# Altium footprint library SamacSys.PcbLib: 128 footprints (part 6 of 8)
Each footprint in its own frame and in the unit in brackets; x right, y up, seen from the top. Pads: shape width x height; smd on the part's side, far side on the other; paste and mask are expansions set on the pad; w line width, h text height; cw(c..) or ccw(c..) is an arc to the next point about the centre after c.
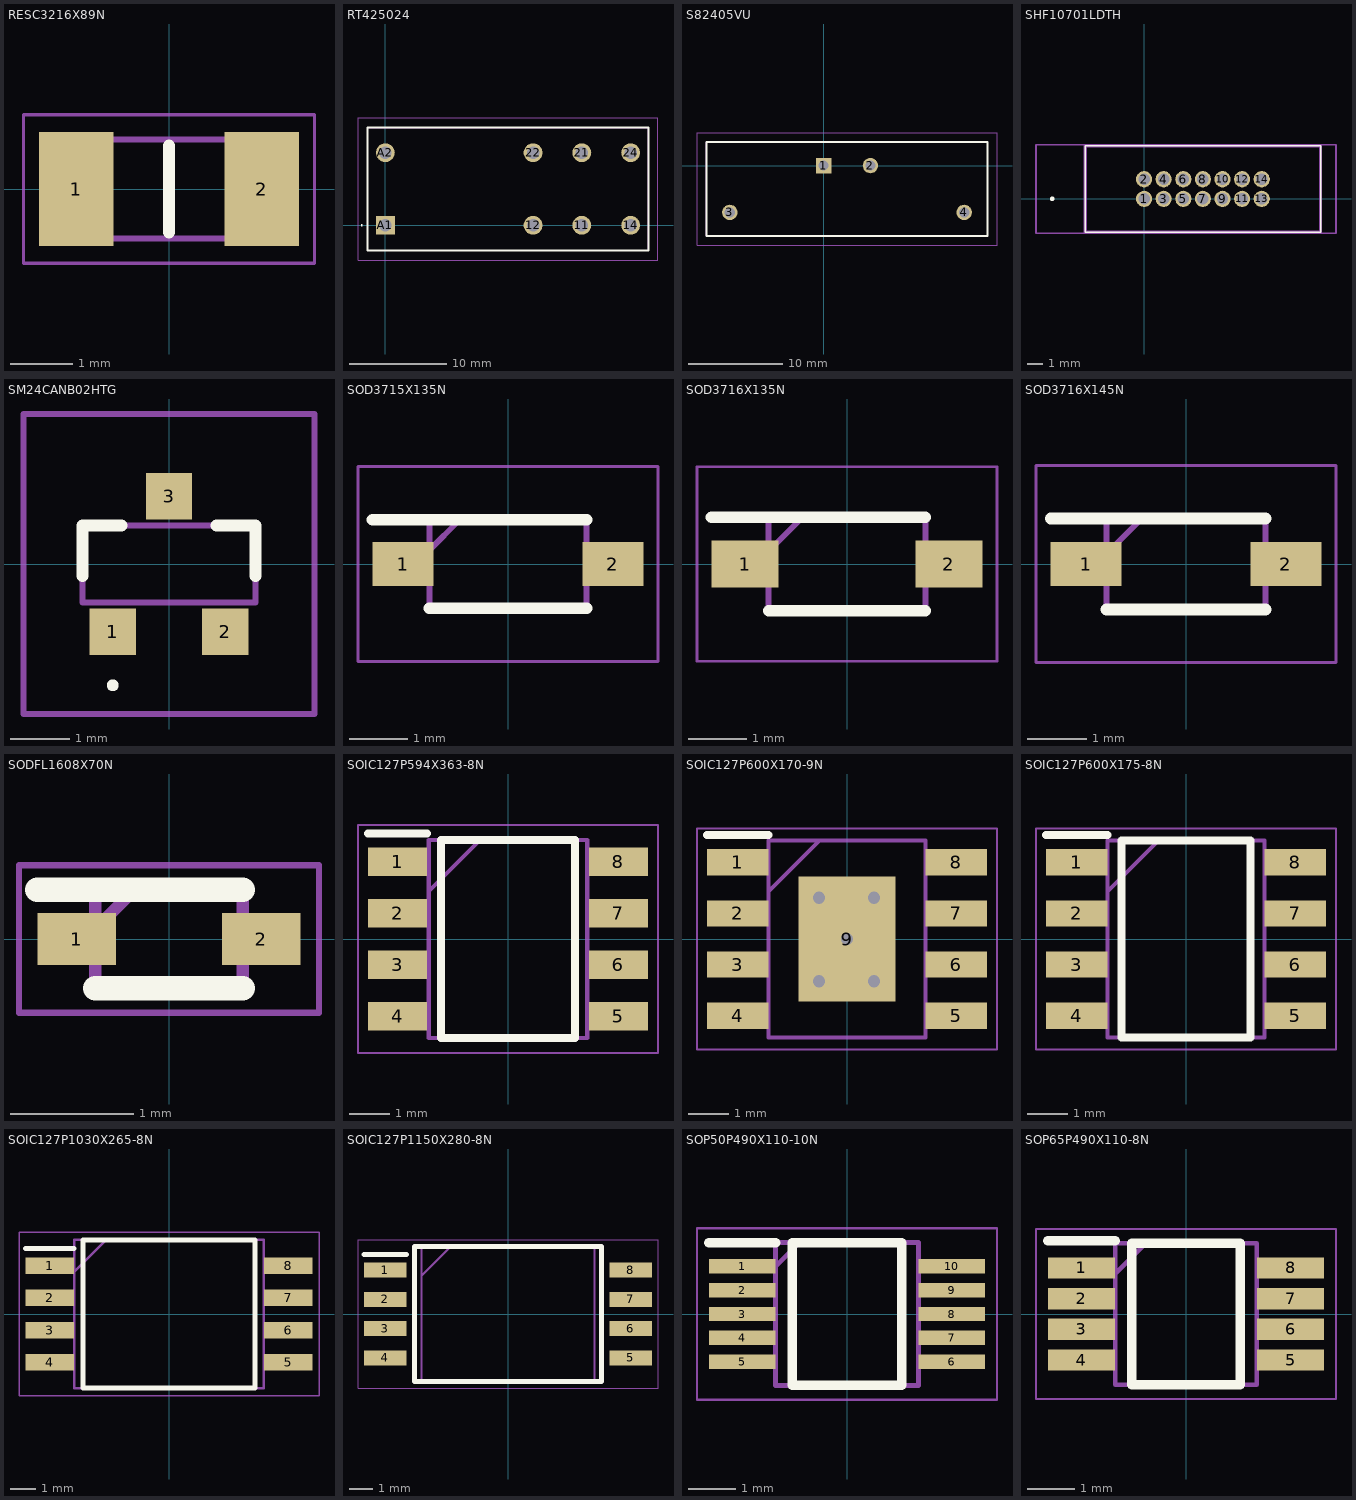
[diagram p5: the footprints below, top view; thin cyan lines are the x and y axes]

## RESC3216X89N [mm]
pads (2):
  rect 1.2x1.85 smd: 1(-1.5,0) 2(1.5,0)
Top Overlay:
  lines w0.2: 0,-0.7 0,0.7
Mechanical 13:
  lines w0.1: -1.6,-0.8 -1.6,0.8 1.6,0.8 1.6,-0.8 -1.6,-0.8
Mechanical 15:
  lines w0.05: -2.35,-1.2 -2.35,1.2 2.35,1.2 2.35,-1.2 -2.35,-1.2
3D body "WSLP1206R0200FEB.stp": height 0.64, standoff 0, extent -1.6,-0.8 1.6,0.8

## RT425024 [mm]
pads (8):
  round 1.95 hole 1.3: 11(20.3,0) 12(15.26,0) 14(25.34,0) 21(20.3,7.5) 22(15.26,7.5) 24(25.34,7.5) A2(0,7.5)
  rect 1.95x1.95 hole 1.3: A1(0,0)
Top Overlay:
  lines w0.1: -2.5,0 ccw(c-2.45,0) -2.4,0 ccw(c-2.45,0) -2.5,0
  lines w0.2: -1.83,-2.6 -1.83,10.1 27.17,10.1 27.17,-2.6 -1.83,-2.6
Mechanical 13:
  lines w0.1: -1.83,-2.6 -1.83,10.1 27.17,10.1 27.17,-2.6 -1.83,-2.6
Mechanical 15:
  lines w0.1: -2.83,-3.6 -2.83,11.1 28.17,11.1 28.17,-3.6 -2.83,-3.6
3D body "RT425024.stp": height 15.8, standoff -5, extent -1.83,-2.6 27.17,10.1

## S82405VU [mm]
pads (4):
  rect 1.65x1.65 hole 1.1: 1(0,0)
  round 1.65 hole 1.1: 2(5,0) 3(-10,-5) 4(15,-5)
Top Overlay:
  lines w0.2: -12.5,-7.5 -12.5,2.5 17.5,2.5 17.5,-7.5 -12.5,-7.5
Mechanical 13:
  lines w0.1: -12.5,-7.5 -12.5,2.5 17.5,2.5 17.5,-7.5 -12.5,-7.5
Mechanical 15:
  lines w0.1: -13.5,-8.5 -13.5,3.5 18.5,3.5 18.5,-8.5 -13.5,-8.5
3D body "S8-2405VU.stp": height 12.1, standoff -5, extent -12.5,-7.5 17.5,2.5

## SHF10701LDTH [mm]
pads (14):
  round 1.05 hole 0.74: 1(0,0) 2(0,1.27) 3(1.27,0) 4(1.27,1.27) 5(2.54,0) 6(2.54,1.27) 7(3.81,0) 8(3.81,1.27) 9(5.08,0) 10(5.08,1.27) 11(6.35,0) 12(6.35,1.27) 13(7.62,0) 14(7.62,1.27)
Top Overlay:
  lines w0.1: -3.81,-2.16 -3.81,3.43 11.43,3.43 11.43,-2.16 -3.81,-2.16
  lines w0.2: -6,0 ccw(c-5.95,0) -5.9,0 ; -6,0 cw(c-5.95,0) -5.9,0 ; -6,0 ccw(c-5.95,0) -5.9,0
Mechanical 13:
  lines w0.2: -3.81,-2.16 -3.81,3.43 11.43,3.43 11.43,-2.16 -3.81,-2.16
Mechanical 15:
  lines w0.1: -7,-2.225 12.43,-2.225 12.43,3.5 -7,3.5 -7,-2.225
3D body "SHF-107-01-L-D-TH.stp": height 5.43, standoff -5, extent -3.81,-2.16 11.43,3.43

## SM24CANB02HTG [mm]
pads (3):
  rect 0.78x0.78 smd: 1(-0.95,-1.145) 2(0.95,-1.145) 3(0,1.145)
Top Overlay:
  lines w0.1: -0.95,-2.1 cw(c-0.95,-2.05) -0.95,-2 cw(c-0.95,-2.05) -0.95,-2.1
  lines w0.2: -1.46,-0.2 -1.46,0.65 -0.8,0.65 ; 0.8,0.65 1.46,0.65 1.46,-0.2
Mechanical 13:
  lines w0.1: -1.46,-0.65 1.46,-0.65 1.46,0.65 -1.46,0.65 -1.46,-0.65
Mechanical 15:
  lines w0.1: -2.46,-2.535 2.46,-2.535 2.46,2.535 -2.46,2.535 -2.46,-2.535
3D body "SM24CANB-02HTG.stp": height 1.12, standoff 0, extent -1.46,-1.185 1.46,1.185

## SOD3715X135N [mm]
pads (2):
  rect 1.05x0.75 smd: 1(-1.8,0) 2(1.8,0)
Top Overlay:
  lines w0.2: -2.325,0.762 1.35,0.762 ; -1.35,-0.762 1.35,-0.762
Mechanical 13:
  lines w0.1: -1.35,0.238 -0.825,0.762 ; -1.35,-0.762 -1.35,0.762 1.35,0.762 1.35,-0.762 -1.35,-0.762
Mechanical 15:
  lines w0.05: -2.575,-1.675 -2.575,1.675 2.575,1.675 2.575,-1.675 -2.575,-1.675
3D body "1N4148W-TP.stp": height 1.25, standoff 0, extent -1.848,-0.85 1.852,0.85

## SOD3716X135N [mm]
pads (2):
  rect 1.15x0.8 smd: 1(-1.75,0) 2(1.75,0)
Top Overlay:
  lines w0.2: -2.325,0.8 1.345,0.8 ; -1.345,-0.8 1.345,-0.8
Mechanical 13:
  lines w0.1: -1.345,0.225 -0.77,0.8 ; -1.345,-0.8 -1.345,0.8 1.345,0.8 1.345,-0.8 -1.345,-0.8
Mechanical 15:
  lines w0.05: -2.575,-1.67 -2.575,1.67 2.575,1.67 2.575,-1.67 -2.575,-1.67
3D body "MBR0530T1G.stp": height 1.35, standoff 0, extent -1.855,-0.8 1.855,0.8

## SOD3716X145N [mm]
pads (2):
  rect 1.2x0.75 smd: 1(-1.7,0) 2(1.7,0)
Top Overlay:
  lines w0.2: -2.3,0.775 1.35,0.775 ; -1.35,-0.775 1.35,-0.775
Mechanical 13:
  lines w0.1: -1.35,0.175 -0.75,0.775 ; -1.35,-0.775 -1.35,0.775 1.35,0.775 1.35,-0.775 -1.35,-0.775
Mechanical 15:
  lines w0.05: -2.55,-1.675 -2.55,1.675 2.55,1.675 2.55,-1.675 -2.55,-1.675
3D body "MMSZ5242B-7-F.stp": height 1, standoff 0, extent -1.85,-0.89 1.85,0.89

## SODFL1608X70N [mm]
pads (2):
  rect 0.64x0.42 smd: 1(-0.75,0) 2(0.75,0)
Top Overlay:
  lines w0.2: -1.07,0.4 0.6,0.4 ; -0.6,-0.4 0.6,-0.4
Mechanical 13:
  lines w0.1: -0.6,0.08 -0.28,0.4 ; -0.6,-0.4 -0.6,0.4 0.6,0.4 0.6,-0.4 -0.6,-0.4
Mechanical 15:
  lines w0.05: -1.22,-0.6 -1.22,0.6 1.22,0.6 1.22,-0.6 -1.22,-0.6
3D body "SZMM5Z5V1ST1G.stp": height 0.7, standoff 0, extent -0.8,-0.4 0.8,0.4

## SOIC127P594X363-8N [mm]
pads (8):
  rect 1.45x0.7 smd: 1(-2.725,1.905) 2(-2.725,0.635) 3(-2.725,-0.635) 4(-2.725,-1.905) 5(2.725,-1.905) 6(2.725,-0.635) 7(2.725,0.635) 8(2.725,1.905)
Top Overlay:
  lines w0.2: -3.45,2.605 -2,2.605 ; -1.65,-2.44 -1.65,2.44 1.65,2.44 1.65,-2.44 -1.65,-2.44
Mechanical 13:
  lines w0.1: -1.955,1.17 -0.685,2.44 ; -1.955,-2.44 -1.955,2.44 1.955,2.44 1.955,-2.44 -1.955,-2.44
Mechanical 15:
  lines w0.05: -3.7,-2.815 -3.7,2.815 3.7,2.815 3.7,-2.815 -3.7,-2.815
3D body "MOCD207M.stp": height 3.63, standoff 0, extent -2.97,-2.44 2.97,2.44

## SOIC127P600X170-9N [mm]
pads (9):
  rect 1.525x0.65 smd: 1(-2.712,1.905) 2(-2.712,0.635) 3(-2.712,-0.635) 4(-2.712,-1.905) 5(2.712,-1.905) 6(2.712,-0.635) 7(2.712,0.635) 8(2.712,1.905)
  rect 2.4x3.1 smd: 9(0,0)
via 0,0 diameter 0.61 hole 0.3
via 0.675,1.025 diameter 0.61 hole 0.3
via 0.675,-1.05 diameter 0.61 hole 0.3
via -0.7,-1.05 diameter 0.61 hole 0.3
via -0.7,1.025 diameter 0.61 hole 0.3
Top Overlay:
  lines w0.2: -3.475,2.58 -1.95,2.58
Mechanical 13:
  lines w0.1: -1.95,1.18 -0.68,2.45 ; -1.95,-2.45 -1.95,2.45 1.95,2.45 1.95,-2.45 -1.95,-2.45
Mechanical 15:
  lines w0.05: -3.725,-2.75 -3.725,2.75 3.725,2.75 3.725,-2.75 -3.725,-2.75
3D body "TPS259620DDAR.stp": height 1.57, standoff 0, extent -3,-2.45 3,2.45

## SOIC127P600X175-8N [mm]
pads (8):
  rect 1.525x0.65 smd: 1(-2.712,1.905) 2(-2.712,0.635) 3(-2.712,-0.635) 4(-2.712,-1.905) 5(2.712,-1.905) 6(2.712,-0.635) 7(2.712,0.635) 8(2.712,1.905)
Top Overlay:
  lines w0.2: -3.475,2.58 -1.95,2.58 ; -1.6,-2.45 -1.6,2.45 1.6,2.45 1.6,-2.45 -1.6,-2.45
Mechanical 13:
  lines w0.1: -1.95,1.18 -0.68,2.45 ; -1.95,-2.45 -1.95,2.45 1.95,2.45 1.95,-2.45 -1.95,-2.45
Mechanical 15:
  lines w0.05: -3.725,-2.75 -3.725,2.75 3.725,2.75 3.725,-2.75 -3.725,-2.75
3D body "NE555DR.stp": height 1.75, standoff 0, extent -3,-2.45 3,2.45

## SOIC127P1030X265-8N [mm]
pads (8):
  rect 1.925x0.65 smd: 1(-4.712,1.905) 2(-4.712,0.635) 3(-4.712,-0.635) 4(-4.712,-1.905) 5(4.712,-1.905) 6(4.712,-0.635) 7(4.712,0.635) 8(4.712,1.905)
Top Overlay:
  lines w0.2: -5.675,2.58 -3.75,2.58 ; -3.4,-2.925 -3.4,2.925 3.4,2.925 3.4,-2.925 -3.4,-2.925
Mechanical 13:
  lines w0.1: -3.75,1.655 -2.48,2.925 ; -3.75,-2.925 -3.75,2.925 3.75,2.925 3.75,-2.925 -3.75,-2.925
Mechanical 15:
  lines w0.05: -5.925,-3.225 -5.925,3.225 5.925,3.225 5.925,-3.225 -5.925,-3.225
3D body "MIE05W0505BGYE-3R-P.stp": height 2.65, standoff 0, extent -5.15,-2.925 5.15,2.925

## SOIC127P1150X280-8N [mm]
pads (8):
  rect 1.85x0.65 smd: 1(-5.325,1.905) 2(-5.325,0.635) 3(-5.325,-0.635) 4(-5.325,-1.905) 5(5.325,-1.905) 6(5.325,-0.635) 7(5.325,0.635) 8(5.325,1.905)
Top Overlay:
  lines w0.2: -6.25,2.58 -4.4,2.58 ; -4.05,-2.925 -4.05,2.925 4.05,2.925 4.05,-2.925 -4.05,-2.925
Mechanical 13:
  lines w0.1: -3.75,1.655 -2.48,2.925 ; -3.75,-2.925 -3.75,2.925 3.75,2.925 3.75,-2.925 -3.75,-2.925
Mechanical 15:
  lines w0.05: -6.5,-3.225 -6.5,3.225 6.5,3.225 6.5,-3.225 -6.5,-3.225
3D body "AMC23C11DWV.stp": height 2.8, standoff 0, extent -5.75,-2.925 5.75,2.925

## SOP50P490X110-10N [mm]
pads (10):
  rect 1.4x0.3 smd: 1(-2.2,1) 2(-2.2,0.5) 3(-2.2,0) 4(-2.2,-0.5) 5(-2.2,-1) 6(2.2,-1) 7(2.2,-0.5) 8(2.2,0) 9(2.2,0.5) 10(2.2,1)
Top Overlay:
  lines w0.2: -2.9,1.5 -1.5,1.5 ; -1.15,-1.5 1.15,-1.5 1.15,1.5 -1.15,1.5 -1.15,-1.5
Mechanical 13:
  lines w0.1: -1.5,1 -1,1.5 ; -1.5,-1.5 1.5,-1.5 1.5,1.5 -1.5,1.5 -1.5,-1.5
Mechanical 15:
  lines w0.05: -3.15,-1.8 3.15,-1.8 3.15,1.8 -3.15,1.8 -3.15,-1.8
3D body "INA226AIDGSR.stp": height 1.1, standoff 0, extent -2.463,-1.5 2.463,1.5

## SOP65P490X110-8N [mm]
pads (8):
  rect 1.425x0.45 smd: 1(-2.212,0.975) 2(-2.212,0.325) 3(-2.212,-0.325) 4(-2.212,-0.975) 5(2.212,-0.975) 6(2.212,-0.325) 7(2.212,0.325) 8(2.212,0.975)
Top Overlay:
  lines w0.2: -2.925,1.55 -1.5,1.55 ; -1.15,-1.5 -1.15,1.5 1.15,1.5 1.15,-1.5 -1.15,-1.5
Mechanical 13:
  lines w0.1: -1.5,0.85 -0.85,1.5 ; -1.5,-1.5 -1.5,1.5 1.5,1.5 1.5,-1.5 -1.5,-1.5
Mechanical 15:
  lines w0.05: -3.175,-1.8 -3.175,1.8 3.175,1.8 3.175,-1.8 -3.175,-1.8
3D body "DS18B20U+.stp": height 1.1, standoff 0, extent -2.515,-1.5 2.515,1.6